# EAGLE library part ADAPTER-CP2102 (library arno)
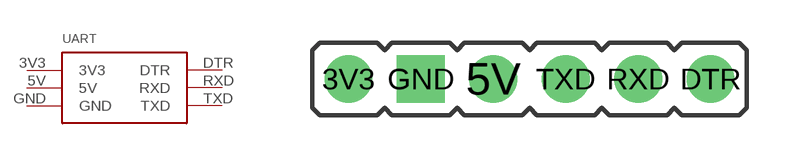
[diagram p5: symbol with the pads of CP2102-USB-CON; footprint CP2102-USB-CON]

Designator prefix UART

## ADAPTER-CP2102PINS  [CP2102-USB-CON]
3V3  3V3
5V  5V
DTR  DTR
GND  GND
RXD  RXD
TXD  TXD

## Footprint CP2102-USB-CON (pad centres in mm)
drill 0.914 pad 1.676: 3V3 -6.35,0; 5V -1.27,0; DTR 6.35,0; RXD 3.81,0; TXD 1.27,0
drill 0.914 pad 1.676 square: GND -3.81,0